# EAGLE library part ER-OLED0.96-1 (library FaBo-Display)
ER-CON30HT-1 Rev2 wide distance 0.23mm
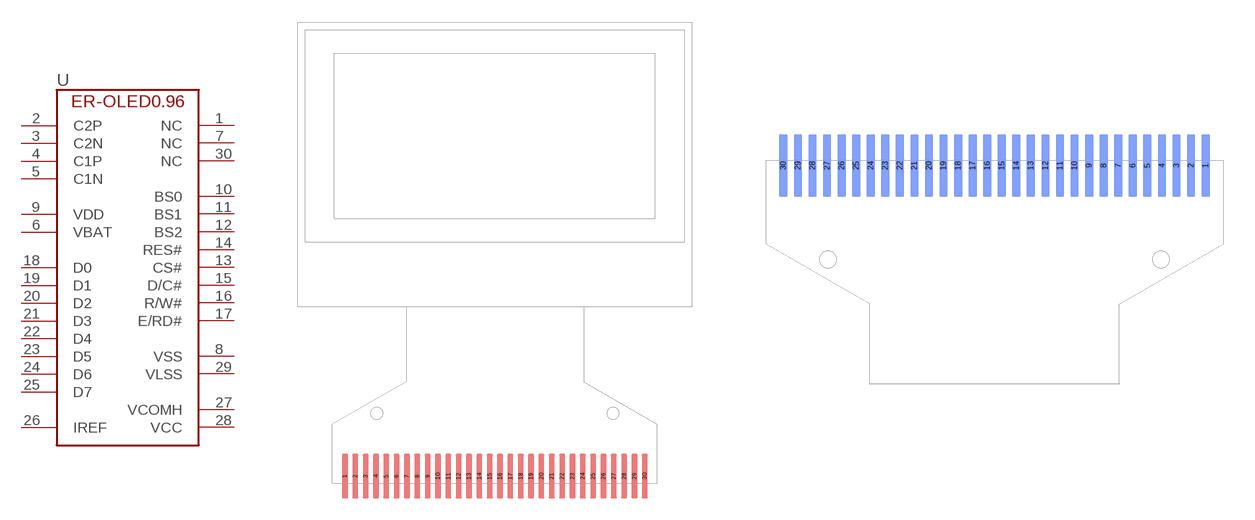
[diagram p1: symbol with the pads of ER-OLED0.96-1; footprints ER-OLED0.96-1, ER-OLED0.96-1-BOTTOM]

Designator prefix U

## ER-OLED0.96-1  [ER-OLED0.96-1]
1  NC
2  C2P
3  C2N
4  C1P
5  C1N
6  VBAT
7  NC
8  VSS
9  VDD
10  BS0
11  BS1
12  BS2
13  CS#
14  RES#
15  D/C#
16  R/W#
17  E/RD#
18  D0
19  D1
20  D2
21  D3
22  D4
23  D5
24  D6
25  D7
26  IREF
27  VCOMH
28  VCC
29  VLSS
30  NC

## ER-OLED0.96-1-BOTTOM  [ER-OLED0.96-1-BOTTOM]
1  NC
2  VLSS
3  VCC
4  VCOMH
5  IREF
6  D7
7  D6
8  D5
9  D4
10  D3
11  D2
12  D1
13  D0
14  E/RD#
15  R/W#
16  D/C#
17  RES#
18  CS#
19  BS2
20  BS1
21  BS0
22  VDD
23  VSS
24  NC
25  VBAT
26  C1N
27  C1P
28  C2N
29  C2P
30  NC

## ER-OLED0.96-1ER-CON30HT-1  [ER-CON30HT-1]
Pads as for ER-OLED0.96-1-BOTTOM

## ER-OLED0.96-1ER-CON30HT-1_REV2  [ER-CON30HT-1_REV2]
Pads as for ER-OLED0.96-1-BOTTOM

## Footprint ER-OLED0.96-1 (pad centres in mm)
smd 0.4 x 3: 1 -10.15,-0.5; 2 -9.45,-0.5; 3 -8.75,-0.5; 4 -8.05,-0.5; 5 -7.35,-0.5; 6 -6.65,-0.5; 7 -5.95,-0.5; 8 -5.25,-0.5; 9 -4.55,-0.5; 10 -3.85,-0.5; 11 -3.15,-0.5; 12 -2.45,-0.5; 13 -1.75,-0.5; 14 -1.05,-0.5; 15 -0.35,-0.5; 16 0.35,-0.5; 17 1.05,-0.5; 18 1.75,-0.5; 19 2.45,-0.5; 20 3.15,-0.5; 21 3.85,-0.5; 22 4.55,-0.5; 23 5.25,-0.5; 24 5.95,-0.5; 25 6.65,-0.5; 26 7.35,-0.5; 27 8.05,-0.5; 28 8.75,-0.5; 29 9.45,-0.5; 30 10.15,-0.5

## Footprint ER-OLED0.96-1-BOTTOM (pad centres in mm)
smd 0.4 x 3 bottom: 1 10.15,-6.85; 2 9.45,-6.85; 3 8.75,-6.85; 4 8.05,-6.85; 5 7.35,-6.85; 6 6.65,-6.85; 7 5.95,-6.85; 8 5.25,-6.85; 9 4.55,-6.85; 10 3.85,-6.85; 11 3.15,-6.85; 12 2.45,-6.85; 13 1.75,-6.85; 14 1.05,-6.85; 15 0.35,-6.85; 16 -0.35,-6.85; 17 -1.05,-6.85; 18 -1.75,-6.85; 19 -2.45,-6.85; 20 -3.15,-6.85; 21 -3.85,-6.85; 22 -4.55,-6.85; 23 -5.25,-6.85; 24 -5.95,-6.85; 25 -6.65,-6.85; 26 -7.35,-6.85; 27 -8.05,-6.85; 28 -8.75,-6.85; 29 -9.45,-6.85; 30 -10.15,-6.85

## Footprint ER-CON30HT-1 (pad centres in mm)
smd 0.3 x 1.5 bottom: 1 7,-0.23; 2 6.5,-0.23; 3 6,-0.23; 4 5.5,-0.23; 5 5,-0.23; 6 4.5,-0.23; 7 4,-0.23; 8 3.5,-0.23; 9 3,-0.23; 10 2.5,-0.23; 11 2,-0.23; 12 1.5,-0.23; 13 1,-0.23; 14 0.5,-0.23; 15 0,-0.23; 16 -0.5,-0.23; 17 -1,-0.23; 18 -1.5,-0.23; 19 -2,-0.23; 20 -2.5,-0.23; 21 -3,-0.23; 22 -3.5,-0.23; 23 -4,-0.23; 24 -4.5,-0.23; 25 -5,-0.23; 26 -5.5,-0.23; 27 -6,-0.23; 28 -6.5,-0.23; 29 -7,-0.23; 30 -7.5,-0.23
smd 2 x 3 bottom: 31 -9.07,-2.67; 32 8.74,-2.67

## Footprint ER-CON30HT-1_REV2 (pad centres in mm)
smd 0.27 x 1.5 bottom: 1 7,-0.23; 2 6.5,-0.23; 3 6,-0.23; 4 5.5,-0.23; 5 5,-0.23; 6 4.5,-0.23; 7 4,-0.23; 8 3.5,-0.23; 9 3,-0.23; 10 2.5,-0.23; 11 2,-0.23; 12 1.5,-0.23; 13 1,-0.23; 14 0.5,-0.23; 15 0,-0.23; 16 -0.5,-0.23; 17 -1,-0.23; 18 -1.5,-0.23; 19 -2,-0.23; 20 -2.5,-0.23; 21 -3,-0.23; 22 -3.5,-0.23; 23 -4,-0.23; 24 -4.5,-0.23; 25 -5,-0.23; 26 -5.5,-0.23; 27 -6,-0.23; 28 -6.5,-0.23; 29 -7,-0.23; 30 -7.5,-0.23
smd 2 x 3 bottom: 31 -9.07,-2.67; 32 8.74,-2.67